# EAGLE library part VHN_HBG (library VHN_HB)
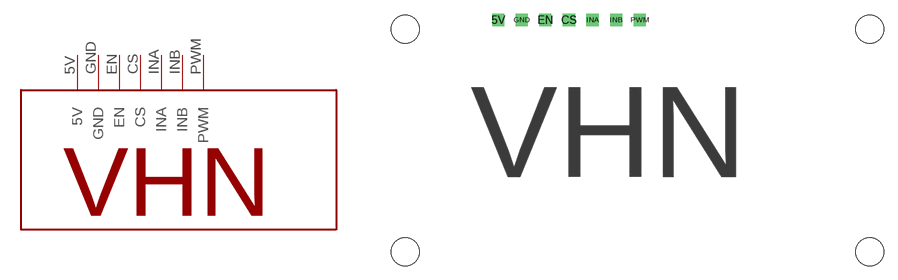
[diagram p0: symbol with the pads of VHN_S_H-BRIDGE; footprint VHN_S_H-BRIDGE]

Designator prefix -

## VHN_HBG  [VHN_S_H-BRIDGE]
5V  5V  in
CS  CS  out
EN  EN  in
GND  GND  in
INA  INA  in
INB  INB
PWM  PWM  in

## Footprint VHN_S_H-BRIDGE (pad centres in mm)
drill 0.8 square: 5V 12,27; CS 19.62,27; EN 17.08,27; GND 14.54,27; INA 22.16,27; INB 24.7,27; PWM 27.24,27
hole 3 at 52,26
hole 3 at 52,2
hole 3 at 2,2
hole 3 at 2,26